# Altium integrated library SMD кварци.IntLib: 1 symbol
Pins are listed as number, name and electrical type; pins without a type are passive.

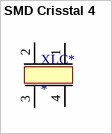
[diagram p0: symbol SMD Crisstal 4]

## SMD Crisstal 4
designator XLC*
footprint SMD4
pins: 1 (power), 2 (power), 3 (power), 4 (power)